# EAGLE library part ADP124 (library analog-devices)
CMOS Linear Regulator 5.5 V Input, 500 mA, Low Quiescent
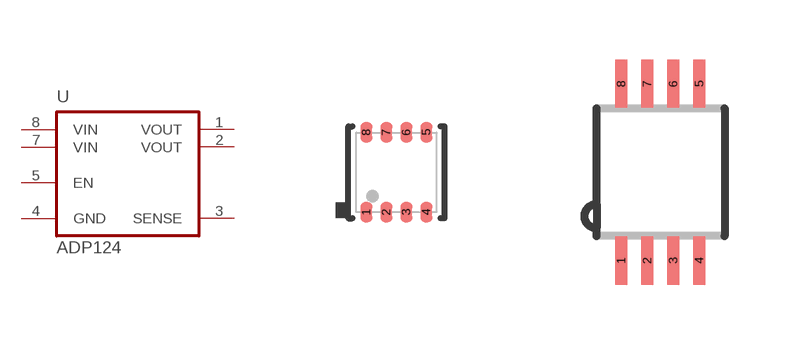
[diagram p51: symbol with the pads of LFCSP8_UD; footprints LFCSP8_UD, MSOP08_EP]

Designator prefix U

## ADP124CP  [LFCSP8_UD]
1  VOUT  pas
2  VOUT  pas
3  SENSE  in
4  GND  pwr
5  EN  in
7  VIN  in
8  VIN  in

## ADP124RH  [MSOP08_EP]
Pads as for LFCSP8_UD

## Footprint LFCSP8_UD (pad centres in mm)
Lead Frame Chip Scale Package (LFCSP_UD) 8-Lead , 2 mm × 2 mm Body, Ultra Thin, Dual Lead
smd 0.3 x 0.5: 1 -0.75,-1; 2 -0.25,-1; 3 0.25,-1; 4 0.75,-1; 5 0.75,1; 6 0.25,1; 7 -0.25,1; 8 -0.75,1

## Footprint MSOP08_EP (pad centres in mm)
Mini Small Outline Package Exposed Pad
smd 0.3 x 1.2: 1 -0.976,-2.213; 2 -0.326,-2.213; 3 0.324,-2.213; 4 0.974,-2.213; 5 0.974,2.212; 6 0.324,2.212; 7 -0.326,2.212; 8 -0.976,2.212